# Altium schematic symbol library DC-DC Module.SchLib: 2 symbols
Pins are listed as number, name and electrical type; pins without a type are passive.

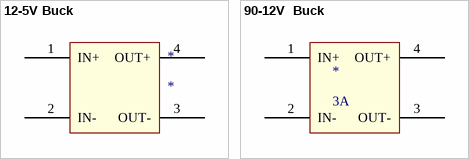
[diagram p0: symbols 12-5V Buck to 90-12V  Buck]

## 12-5V Buck
designator *
3A
footprint 12-5V BUCK
footprint 12-5V BUCK
pins: 1 IN+, 2 IN-, 3 OUT-, 4 OUT+

## 90-12V  Buck
designator *, comment 3A
footprint 90-12V BUCK
footprint 90-12V BUCK
pins: 1 IN+, 2 IN-, 3 OUT-, 4 OUT+